# EAGLE library part ATMEGA32U4 (library p.peter-ics)
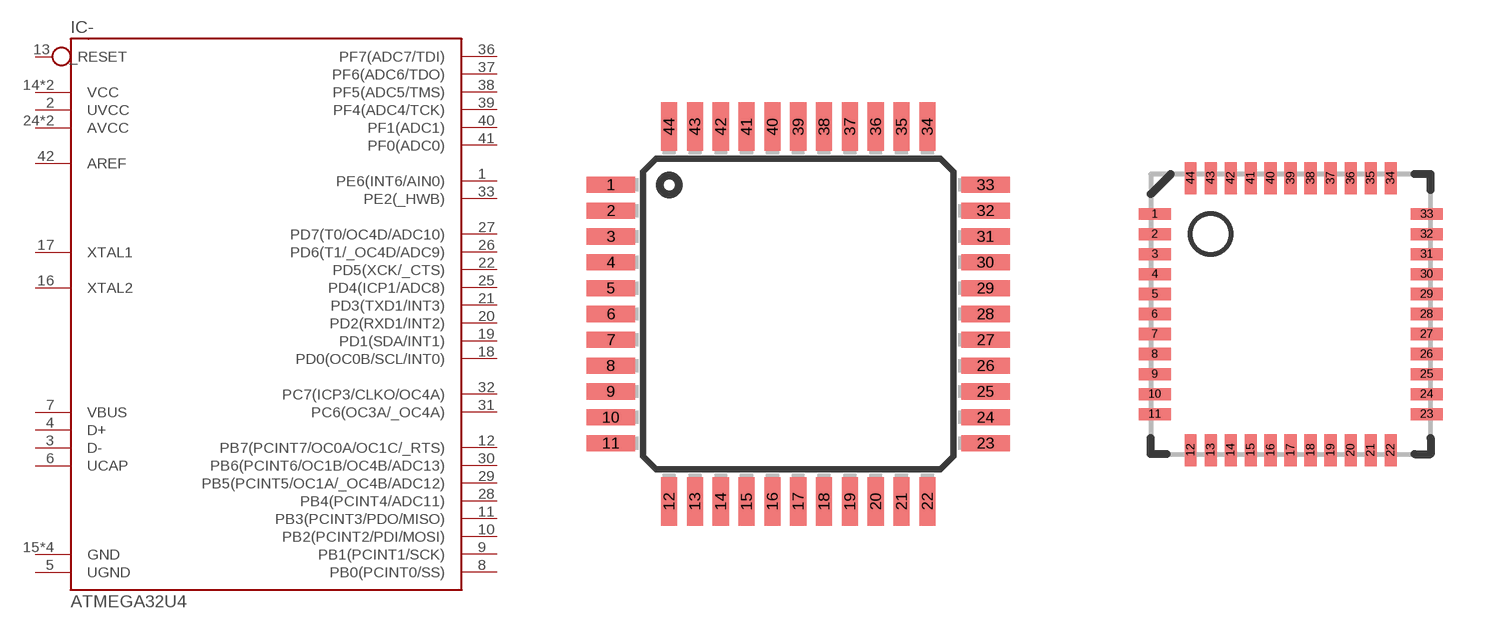
[diagram p11: symbol with the pads of TQFP44; footprints TQFP44, QFN-44-NOPAD]

Designator prefix IC-

## ATMEGA32U4-TQFP  [TQFP44]
1  PE6(INT6/AIN0)
2  UVCC
3  D-
4  D+
5  UGND
6  UCAP
7  VBUS
8  PB0(PCINT0/SS)
9  PB1(PCINT1/SCK)
10  PB2(PCINT2/PDI/MOSI)
11  PB3(PCINT3/PDO/MISO)
12  PB7(PCINT7/OC0A/OC1C/_RTS)
13  _RESET
14  VCC
15  GND
16  XTAL2
17  XTAL1
18  PD0(OC0B/SCL/INT0)
19  PD1(SDA/INT1)
20  PD2(RXD1/INT2)
21  PD3(TXD1/INT3)
22  PD5(XCK/_CTS)
23  GND
24  AVCC
25  PD4(ICP1/ADC8)
26  PD6(T1/_OC4D/ADC9)
27  PD7(T0/OC4D/ADC10)
28  PB4(PCINT4/ADC11)
29  PB5(PCINT5/OC1A/_OC4B/ADC12)
30  PB6(PCINT6/OC1B/OC4B/ADC13)
31  PC6(OC3A/_OC4A)
32  PC7(ICP3/CLKO/OC4A)
33  PE2(_HWB)
34  VCC
35  GND
36  PF7(ADC7/TDI)
37  PF6(ADC6/TDO)
38  PF5(ADC5/TMS)
39  PF4(ADC4/TCK)
40  PF1(ADC1)
41  PF0(ADC0)
42  AREF
43  GND
44  AVCC

## ATMEGA32U4-QFN  [QFN-44-NOPAD]
Pads as for TQFP44

## ATMEGA32U4-QFN-HAND  [QFN-44-NOPAD-LONGLEADS]
Pads as for TQFP44

## Footprint TQFP44 (pad centres in mm)
smd 1.5 x 0.5: 1 -5.8,4; 2 -5.8,3.2; 3 -5.8,2.4; 4 -5.8,1.6; 5 -5.8,0.8; 6 -5.8,0; 7 -5.8,-0.8; 8 -5.8,-1.6; 9 -5.8,-2.4; 10 -5.8,-3.2; 11 -5.8,-4; 23 5.8,-4; 24 5.8,-3.2; 25 5.8,-2.4; 26 5.8,-1.6; 27 5.8,-0.8; 28 5.8,0; 29 5.8,0.8; 30 5.8,1.6; 31 5.8,2.4; 32 5.8,3.2; 33 5.8,4
smd 0.5 x 1.5: 12 -4,-5.8; 13 -3.2,-5.8; 14 -2.4,-5.8; 15 -1.6,-5.8; 16 -0.8,-5.8; 17 0,-5.8; 18 0.8,-5.8; 19 1.6,-5.8; 20 2.4,-5.8; 21 3.2,-5.8; 22 4,-5.8; 34 4,5.8; 35 3.2,5.8; 36 2.4,5.8; 37 1.6,5.8; 38 0.8,5.8; 39 0,5.8; 40 -0.8,5.8; 41 -1.6,5.8; 42 -2.4,5.8; 43 -3.2,5.8; 44 -4,5.8

## Footprint QFN-44-NOPAD (pad centres in mm)
smd 0.8 x 0.3: 1 -3.4,2.5; 2 -3.4,2; 3 -3.4,1.5; 4 -3.4,1; 5 -3.4,0.5; 6 -3.4,0; 7 -3.4,-0.5; 8 -3.4,-1; 9 -3.4,-1.5; 10 -3.4,-2; 11 -3.4,-2.5; 23 3.4,-2.5; 24 3.4,-2; 25 3.4,-1.5; 26 3.4,-1; 27 3.4,-0.5; 28 3.4,0; 29 3.4,0.5; 30 3.4,1; 31 3.4,1.5; 32 3.4,2; 33 3.4,2.5
smd 0.3 x 0.8: 12 -2.5,-3.4; 13 -2,-3.4; 14 -1.5,-3.4; 15 -1,-3.4; 16 -0.5,-3.4; 17 0,-3.4; 18 0.5,-3.4; 19 1,-3.4; 20 1.5,-3.4; 21 2,-3.4; 22 2.5,-3.4; 34 2.5,3.4; 35 2,3.4; 36 1.5,3.4; 37 1,3.4; 38 0.5,3.4; 39 0,3.4; 40 -0.5,3.4; 41 -1,3.4; 42 -1.5,3.4; 43 -2,3.4; 44 -2.5,3.4

## Footprint QFN-44-NOPAD-LONGLEADS (pad centres in mm)
smd 1.2 x 0.3: 1 -3.6,2.5; 2 -3.6,2; 3 -3.6,1.5; 4 -3.6,1; 5 -3.6,0.5; 6 -3.6,0; 7 -3.6,-0.5; 8 -3.6,-1; 9 -3.6,-1.5; 10 -3.6,-2; 11 -3.6,-2.5; 23 3.6,-2.5; 24 3.6,-2; 25 3.6,-1.5; 26 3.6,-1; 27 3.6,-0.5; 28 3.6,0; 29 3.6,0.5; 30 3.6,1; 31 3.6,1.5; 32 3.6,2; 33 3.6,2.5
smd 0.3 x 1.2: 12 -2.5,-3.6; 13 -2,-3.6; 14 -1.5,-3.6; 15 -1,-3.6; 16 -0.5,-3.6; 17 0,-3.6; 18 0.5,-3.6; 19 1,-3.6; 20 1.5,-3.6; 21 2,-3.6; 22 2.5,-3.6; 34 2.5,3.6; 35 2,3.6; 36 1.5,3.6; 37 1,3.6; 38 0.5,3.6; 39 0,3.6; 40 -0.5,3.6; 41 -1,3.6; 42 -1.5,3.6; 43 -2,3.6; 44 -2.5,3.6